# EAGLE library part USB-FCI-MICROB (library Pygmy)
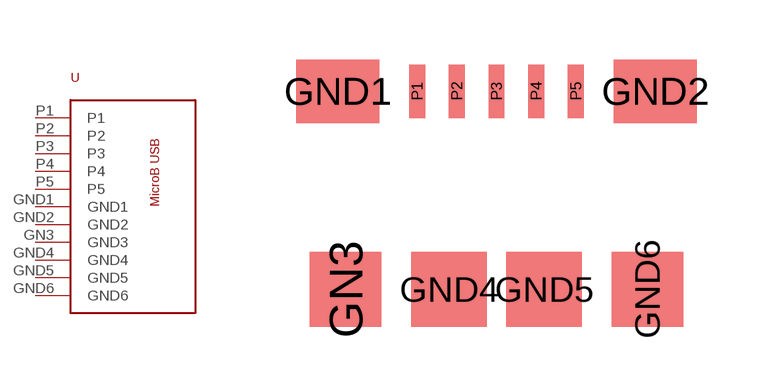
[diagram p81: symbol with the pads of UDB_FCI_MICROB; footprint UDB_FCI_MICROB]

Designator prefix -

## USB-FCI-MICROB  [UDB_FCI_MICROB]
GN3  GND3
GND1  GND1
GND2  GND2
GND4  GND4
GND5  GND5
GND6  GND6
P1  P1
P2  P2
P3  P3
P4  P4
P5  P5

## Footprint UDB_FCI_MICROB (pad centres in mm)
smd 1.8 x 1.9: GN3 -3.8,-5; GND6 3.8,-5
smd 2.1 x 1.6: GND1 -4,0; GND2 4,0
smd 1.9 x 1.9: GND4 -1.2,-5; GND5 1.2,-5
smd 0.4 x 1.35: P1 -2,0; P2 -1,0; P3 0,0; P4 1,0; P5 2,0